# EAGLE library part PP-STANDALONE-HEADER (library PiezoFFC)
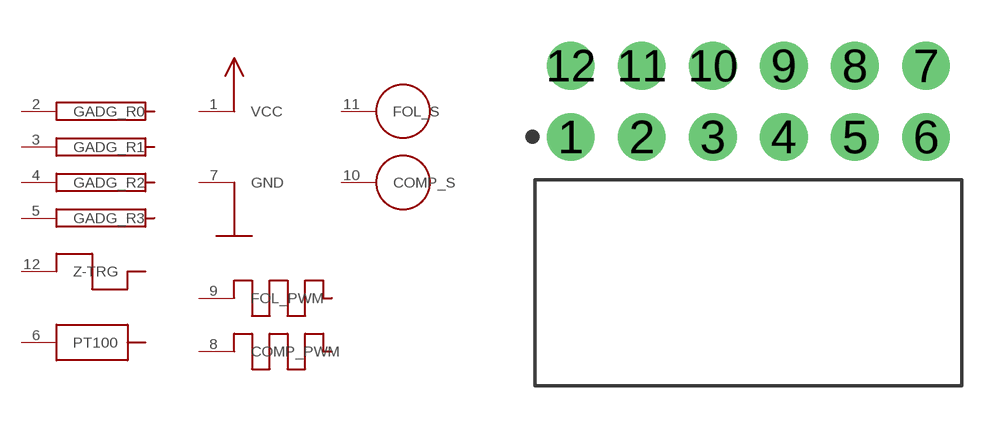
[diagram p11: symbol with the pads of PP-STANDALONE-HEADER; footprint PP-STANDALONE-HEADER]

Designator prefix -; gates G$1=PP-STANDALONE-GADJ G$2=PP-STANDALONE-OUTPUT G$3=PP-STANDALONE-POWER G$4=PP-STANDALONE-PWM G$5=PP-STANDALONE-SENSE

## PP-STANDALONE-HEADER  [PP-STANDALONE-HEADER]
1  G$3:VCC  pwr
2  G$1:GADG_R0
3  G$1:GADG_R1
4  G$1:GADG_R2
5  G$1:GADG_R3
6  G$2:PT100
7  G$3:GND  pwr
8  G$4:COMP_PWM
9  G$4:FOL_PWM
10  G$5:COMP_S
11  G$5:FOL_S
12  G$2:Z-TRG

## Footprint PP-STANDALONE-HEADER (pad centres in mm)
Double-row, 12-pin Receptacle Header (Female) Right Angle, 2.54 mm (0.10 in) row pitch, 2.54 mm (0.10 in) col pitch, 7.36 mm insulator length, 15.24 X 7.36 X 5.56 mm body Double-row (2X6), 12-pin Receptacle Header (Female) Right Angle package with 2.54 mm (0.10 in) row pitch, 2.54 mm (0.10 in) col pitch, 0.64 mm lead width, 3.00 mm tail length and 7.36 mm insulator length with body size 15.24 X 7.36 X 5.56 mm, pin pattern - counter-clockwise from bottom left
drill 1.105 pad 1.705: 1 0,0; 2 2.54,0; 3 5.08,0; 4 7.62,0; 5 10.16,0; 6 12.7,0; 7 12.7,2.54; 8 10.16,2.54; 9 7.62,2.54; 10 5.08,2.54; 11 2.54,2.54; 12 0,2.54